# Altium schematic symbol library smc-diodes.SchLib: 1 symbol
Pins are listed as number, name and electrical type; pins without a type are passive.

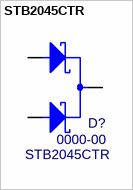
[diagram p0: symbol STB2045CTR]

## STB2045CTR
designator D?, comment 0000-00  value STB2045CTR
Dual Schottky Barrier Rectifier 45V 20A; MF: SMC Diodes; PN: 0000-00; Package: D-Pack; ExtraInfo: *; MF PN: STB2045CTR; Price: 0.36285; Digi-Key PN: 1655-1695-1-ND
footprint TO252-3 (D-PAK, 3-Pads, Body 6.20x6.72mm (max), IPC Medium Density)
pins: 1 A, 3 A, 4 K